# EAGLE library part 310090304_MT41K256M16TW-107 (library Seeed-OPL-2017-01-IC-Akita)
Micron;MT41K256M16TW-107:P, SMD IC Memory;TFBGA-96（8x14), SKU: 310090304
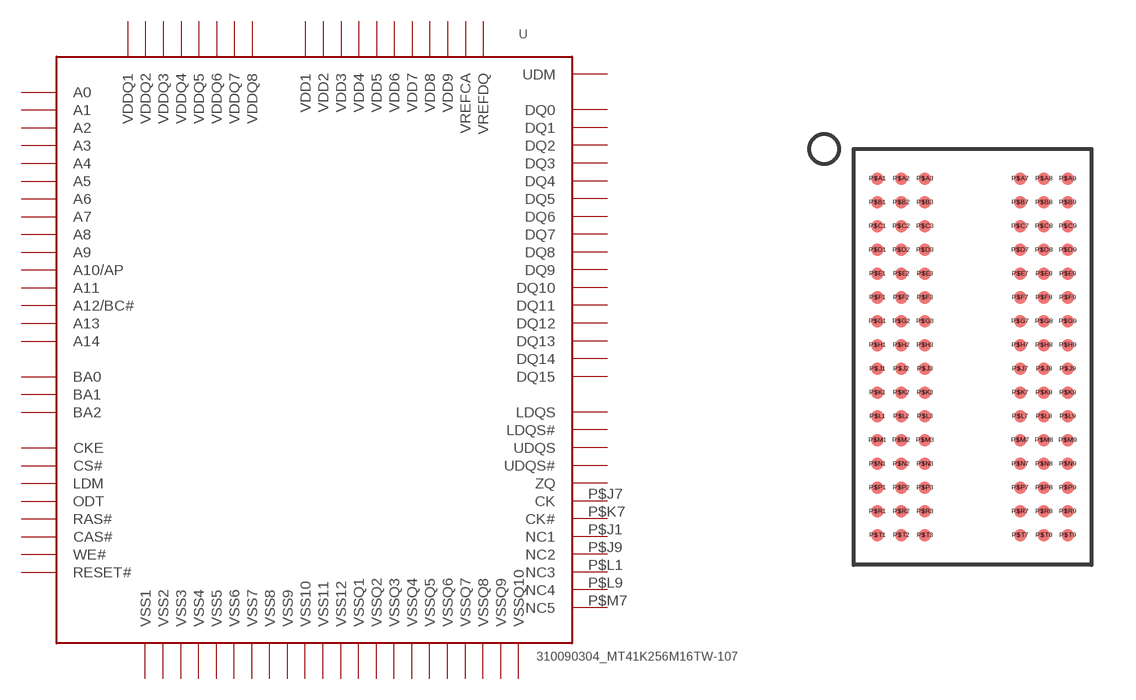
[diagram p10: symbol with the pads of TFBGA96_8X14; footprint TFBGA96_8X14]

Designator prefix U

## 310090304_MT41K256M16TW-107  [TFBGA96_8X14]
P$A1  VDDQ1  pwr
P$A2  DQ13
P$A3  DQ15
P$A7  DQ12
P$A8  VDDQ2  pwr
P$A9  VSS1  pwr
P$B1  VSSQ1  pwr
P$B2  VDD1  pwr
P$B3  VSS2  pwr
P$B7  UDQS#
P$B8  DQ14
P$B9  VSSQ2  pwr
P$C1  VDDQ3  pwr
P$C2  DQ11
P$C3  DQ9
P$C7  UDQS
P$C8  DQ10
P$C9  VDDQ4  pwr
P$D1  VSSQ3  pwr
P$D2  VSSQ4  pwr
P$D3  UDM
P$D7  DQ8
P$D8  VSSQ5  pwr
P$D9  VDD2  pwr
P$E1  VSS3  pwr
P$E2  VSSQ6  pwr
P$E3  DQ0
P$E7  LDM
P$E8  VSSQ7  pwr
P$E9  VDDQ5  pwr
P$F1  VDDQ6  pwr
P$F2  DQ2
P$F3  LDQS
P$F7  DQ1
P$F8  DQ3
P$F9  VSSQ8  pwr
P$G1  VSSQ9  pwr
P$G2  DQ6
P$G3  LDQS#
P$G7  VDD3  pwr
P$G8  VSS4  pwr
P$G9  VSSQ10  pwr
P$H1  VREFDQ  pwr
P$H2  VDDQ7  pwr
P$H3  DQ4
P$H7  DQ7
P$H8  DQ5
P$H9  VDDQ8  pwr
P$J1  NC1
P$J2  VSS5  pwr
P$J3  RAS#
P$J7  CK
P$J8  VSS6  pwr
P$J9  NC2
P$K1  ODT
P$K2  VDD4  pwr
P$K3  CAS#
P$K7  CK#
P$K8  VDD5  pwr
P$K9  CKE
P$L1  NC3
P$L2  CS#
P$L3  WE#
P$L7  A10/AP
P$L8  ZQ
P$L9  NC4
P$M1  VSS7  pwr
P$M2  BA0
P$M3  BA2
P$M7  NC5
P$M8  VREFCA  pwr
P$M9  VSS8  pwr
P$N1  VDD6  pwr
P$N2  A3
P$N3  A0
P$N7  A12/BC#
P$N8  BA1
P$N9  VDD7  pwr
P$P1  VSS9  pwr
P$P2  A5
P$P3  A2
P$P7  A1
P$P8  A4
P$P9  VSS10  pwr
P$R1  VDD8  pwr
P$R2  A7
P$R3  A9
P$R7  A11
P$R8  A6
P$R9  VDD9  pwr
P$T1  VSS11  pwr
P$T2  RESET#
P$T3  A13
P$T7  A14
P$T8  A8
P$T9  VSS12  pwr

## Footprint TFBGA96_8X14 (pad centres in mm)
TFBGA96（8x14), 0.8mm pitch
smd 0.42 x 0.42: P$A1 -3.2,6; P$A2 -2.4,6; P$A3 -1.6,6; P$A7 1.6,6; P$A8 2.4,6; P$A9 3.2,6; P$B1 -3.2,5.2; P$B2 -2.4,5.2; P$B3 -1.6,5.2; P$B7 1.6,5.2; P$B8 2.4,5.2; P$B9 3.2,5.2; P$C1 -3.2,4.4; P$C2 -2.4,4.4; P$C3 -1.6,4.4; P$C7 1.6,4.4; P$C8 2.4,4.4; P$C9 3.2,4.4; P$D1 -3.2,3.6; P$D2 -2.4,3.6; P$D3 -1.6,3.6; P$D7 1.6,3.6; P$D8 2.4,3.6; P$D9 3.2,3.6; P$E1 -3.2,2.8; P$E2 -2.4,2.8; P$E3 -1.6,2.8; P$E7 1.6,2.8; P$E8 2.4,2.8; P$E9 3.2,2.8; P$F1 -3.2,2; P$F2 -2.4,2; P$F3 -1.6,2; P$F7 1.6,2; P$F8 2.4,2; P$F9 3.2,2; P$G1 -3.2,1.2; P$G2 -2.4,1.2; P$G3 -1.6,1.2; P$G7 1.6,1.2; P$G8 2.4,1.2; P$G9 3.2,1.2; P$H1 -3.2,0.4; P$H2 -2.4,0.4; P$H3 -1.6,0.4; P$H7 1.6,0.4; P$H8 2.4,0.4; P$H9 3.2,0.4; P$J1 -3.2,-0.4; P$J2 -2.4,-0.4; P$J3 -1.6,-0.4; P$J7 1.6,-0.4; P$J8 2.4,-0.4; P$J9 3.2,-0.4; P$K1 -3.2,-1.2; P$K2 -2.4,-1.2; P$K3 -1.6,-1.2; P$K7 1.6,-1.2; P$K8 2.4,-1.2; P$K9 3.2,-1.2; P$L1 -3.2,-2; P$L2 -2.4,-2; P$L3 -1.6,-2; P$L7 1.6,-2; P$L8 2.4,-2; P$L9 3.2,-2; P$M1 -3.2,-2.8; P$M2 -2.4,-2.8; P$M3 -1.6,-2.8; P$M7 1.6,-2.8; P$M8 2.4,-2.8; P$M9 3.2,-2.8; P$N1 -3.2,-3.6; P$N2 -2.4,-3.6; P$N3 -1.6,-3.6; P$N7 1.6,-3.6; P$N8 2.4,-3.6; P$N9 3.2,-3.6; P$P1 -3.2,-4.4; P$P2 -2.4,-4.4; P$P3 -1.6,-4.4; P$P7 1.6,-4.4; P$P8 2.4,-4.4; P$P9 3.2,-4.4; P$R1 -3.2,-5.2; P$R2 -2.4,-5.2; P$R3 -1.6,-5.2; P$R7 1.6,-5.2; P$R8 2.4,-5.2; P$R9 3.2,-5.2; P$T1 -3.2,-6; P$T2 -2.4,-6; P$T3 -1.6,-6; P$T7 1.6,-6; P$T8 2.4,-6; P$T9 3.2,-6